# EAGLE library part PD*54-11GWA (library Display_LED)
Dual Alpha-Numeric Display - 14SEG, 0.543" Character size, RED, 18DIP, THT Datasheet <https://www.kingbrightusa.com/images/catalog/SPEC/PDC54-11GWA.pdf>
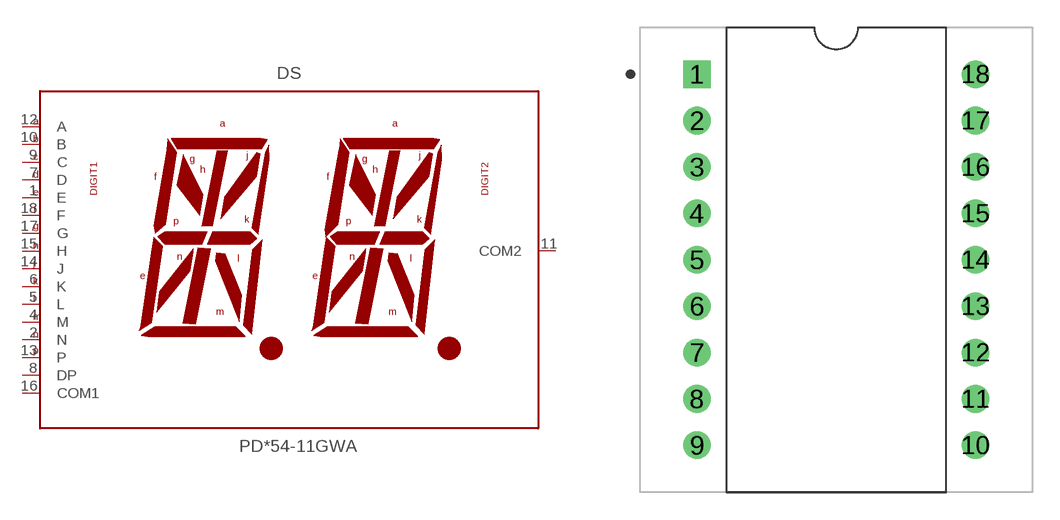
[diagram p5: symbol with the pads of PDC54-11GWA; footprint PDC54-11GWA]

Designator prefix DS

## PDC54-11GWA" (CATEGORY: DISPLAY; COLOR: Green (GaP); CONFIGURATION: Common Cathode; DESCRIPTION: 13.8mm (0.543INCH) 14 SEGMENT DUAL DIGIT ALPHANUMERIC DISPLAY; DIGIT: Dual Digit; MANUFACTURER: Kingbright; MPN: PDC54-11GWA; OPERATING_TEMP: -40°C to +85 °C; PART_STATUS: Active; ROHS_COMPLIANT: COMPLIANT; SERIES: -; SUB-CATEGORY: LED; THERMALLOSS: 0.0625 W; TYPE: 7 Segment; VALUE: PDC54-11GWA)  [PDC54-11GWA]
1  E  pas
2  N  pas
4  M  pas
5  L  pas
6  K  pas
7  D  pas
8  DP  pas
9  C  pas
10  B  pas
11  COM2  pas
12  A  pas
13  P  pas
14  J  pas
15  H  pas
16  COM1  pas
17  G  pas
18  F  pas

## Footprint PDC54-11GWA (pad centres in mm)
drill 1 square: 1 0,0
drill 1: 2 0,-2.54; 3 0,-5.08; 4 0,-7.62; 5 0,-10.16; 6 0,-12.7; 7 0,-15.24; 8 0,-17.78; 9 0,-20.32; 10 15.24,-20.32; 11 15.24,-17.78; 12 15.24,-15.24; 13 15.24,-12.7; 14 15.24,-10.16; 15 15.24,-7.62; 16 15.24,-5.08; 17 15.24,-2.54; 18 15.24,0